# Altium footprint library STM32F4xx.PcbLib: 13 footprints
Each footprint in its own frame and in the unit in brackets; x right, y up, seen from the top. Pads: shape width x height; smd on the part's side, far side on the other; paste and mask are expansions set on the pad; w line width, h text height; cw(c..) or ccw(c..) is an arc to the next point about the centre after c.
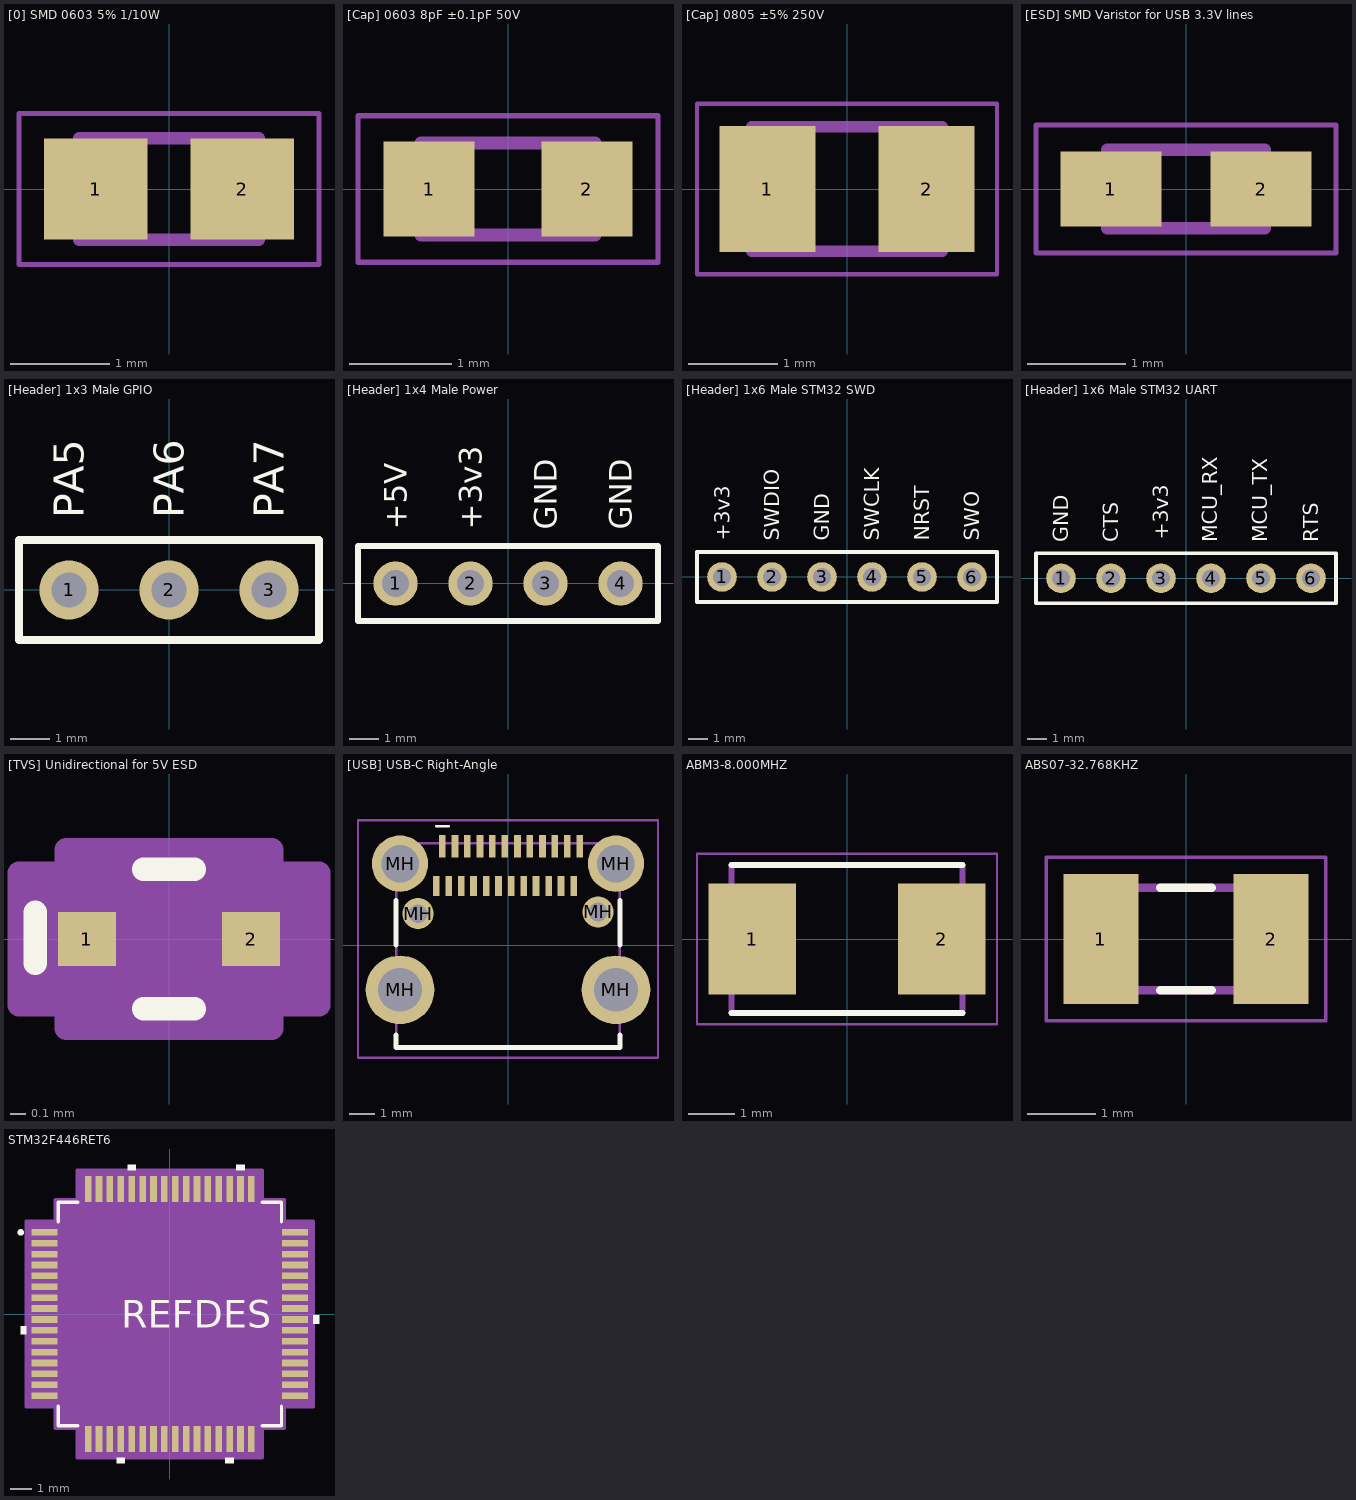
[diagram p0: the footprints below, top view; thin cyan lines are the x and y axes]

## [0] SMD 0603 5% 1/10W [mm]
pads (2):
  rect 1.04x1.02 smd: 1(-0.735,0) 2(0.735,0)
Mechanical 13:
  lines w0.127: -0.9,-0.51 0.9,-0.51 0.9,0.51 -0.9,0.51 -0.9,-0.51
Mechanical 15:
  lines w0.05: -1.508,-0.761 1.508,-0.761 1.508,0.761 -1.508,0.761 -1.508,-0.761
3D body "step_temp.STEP": height 0.55, standoff 0, extent -0.8,-0.4 0.8,0.4

## [Cap] 0603 8pF ±0.1pF 50V [mm]
pads (2):
  rect 0.89x0.93 smd paste+0 mask+0.102: 1(-0.77,0) 2(0.77,0)
Mechanical 13:
  lines w0.127: -0.85,-0.45 0.85,-0.45 0.85,0.45 -0.85,0.45 -0.85,-0.45
Mechanical 15:
  lines w0.05: -1.465,-0.715 1.465,-0.715 1.465,0.715 -1.465,0.715 -1.465,-0.715
3D body "step_temp.STEP": height 0.9, standoff 0, extent -0.8,-0.4 0.8,0.4

## [Cap] 0805 ±5% 250V [mm]
pads (2):
  rect 1.08x1.42 smd paste+0 mask+0.102: 1(-0.895,0) 2(0.895,0)
Mechanical 13:
  lines w0.127: -1.07,-0.7 -1.07,0.7 1.07,0.7 1.07,-0.7 -1.07,-0.7
Mechanical 15:
  lines w0.05: -1.685,-0.96 -1.685,0.96 1.685,0.96 1.685,-0.96 -1.685,-0.96
3D body "step_temp.STEP": height 1, standoff 0, extent -1,-0.625 1,0.625

## [ESD] SMD Varistor for USB 3.3V lines [mm]
height 0.55
pads (2):
  rect 1.02x0.76 smd: 1(-0.76,0) 2(0.76,0)
Mechanical 13:
  lines w0.127: -0.8,-0.4 0.8,-0.4 0.8,0.4 -0.8,0.4 -0.8,-0.4
Mechanical 15:
  lines w0.05: -1.52,-0.65 -1.52,0.65 1.52,0.65 1.52,-0.65 -1.52,-0.65
3D body "cg0603mlu.stp": height 0.45, standoff 0, extent -0.8,-0.4 0.8,0.4

## [Header] 1x3 Male GPIO [mm]
pads (3):
  round 1.5 hole 0.9: 1(-2.54,0) 2(0,0) 3(2.54,0)
Top Overlay:
  lines w0.2: -3.81,-1.27 -3.81,1.27 3.81,1.27 3.81,-1.27 -3.81,-1.27
  text "PA7" at 2.921,1.829 h0.76
  text "PA6" at 0.381,1.829 h0.76
  text "PA5" at -2.159,1.829 h0.76
Bottom Overlay:
  lines w0.2: -3.81,-1.27 3.81,-1.27 3.81,1.27 -3.81,1.27 -3.81,-1.27
Mechanical 15:
  lines w0.1: -3.81,-1.27 3.81,-1.27 3.81,1.27 -3.81,1.27 -3.81,-1.27
3D body "Pin Header 1x3 TH Pitch 2.54mm.stp": height 9.5, standoff -3.2, extent -3.81,-1.27 3.81,1.27

## [Header] 1x4 Male Power [mm] "2.54mm pitch"
pads (4):
  round 1.5 hole 0.9: 1(-3.81,0) 2(-1.27,0) 3(1.27,0) 4(3.81,0)
Top Overlay:
  lines w0.2: -5.08,-1.27 -5.08,1.27 5.08,1.27 5.08,-1.27 -5.08,-1.27
  text "+5V" at -3.429,1.829 h0.76
  text "+3v3" at -0.889,1.829 h0.76
  text "GND" at 1.651,1.829 h0.76
  text "GND" at 4.191,1.829 h0.76
Bottom Overlay:
  lines w0.2: -5.08,-1.27 5.08,-1.27 5.08,1.27 -5.08,1.27 -5.08,-1.27
Mechanical 15:
  lines w0.1: -5.08,-1.27 5.08,-1.27 5.08,1.27 -5.08,1.27 -5.08,-1.27
3D body "Pin Header 1x4 TH Pitch 2.54mm.stp": height 9.5, standoff -3.2, extent -5.08,-1.27 5.08,1.27

## [Header] 1x6 Male STM32 SWD [mm]
pads (6):
  round 1.5 hole 0.9: 1(-6.35,0) 2(-3.81,0) 3(-1.27,0) 4(1.27,0) 5(3.81,0) 6(6.35,0)
Top Overlay:
  lines w0.2: -7.62,-1.27 7.62,-1.27 7.62,1.27 -7.62,1.27 -7.62,-1.27
  text "SWO" at 6.731,1.829 h0.76
  text "NRST" at 4.191,1.829 h0.76
  text "SWCLK" at 1.651,1.829 h0.76
  text "GND" at -0.889,1.829 h0.76
  text "SWDIO" at -3.429,1.829 h0.76
  text "+3v3" at -5.969,1.829 h0.76
Bottom Overlay:
  lines w0.2: -7.62,-1.27 -7.62,1.27 7.62,1.27 7.62,-1.27 -7.62,-1.27
Mechanical 15:
  lines w0.1: -7.62,-1.27 -7.62,1.27 7.62,1.27 7.62,-1.27 -7.62,-1.27
3D body "Pin Header 1x6 TH Pitch 2.54mm.stp": height 9.5, standoff -3.2, extent -7.62,-1.27 7.62,1.27

## [Header] 1x6 Male STM32 UART [mm]
pads (6):
  round 1.5 hole 0.9: 1(-6.35,0) 2(-3.81,0) 3(-1.27,0) 4(1.27,0) 5(3.81,0) 6(6.35,0)
Top Overlay:
  lines w0.2: -7.62,-1.27 -7.62,1.27 7.62,1.27 7.62,-1.27 -7.62,-1.27
  text "+3v3" at -0.889,1.956 h0.76
  text "CTS" at -3.429,1.829 h0.76
  text "GND" at -5.969,1.829 h0.76
  text "MCU_RX" at 1.587,1.829 h0.76
  text "MCU_TX" at 4.127,1.829 h0.76
  text "RTS" at 6.731,1.829 h0.76
Bottom Overlay:
  lines w0.2: -7.62,-1.27 7.62,-1.27 7.62,1.27 -7.62,1.27 -7.62,-1.27
Mechanical 15:
  lines w0.1: -7.62,-1.27 7.62,-1.27 7.62,1.27 -7.62,1.27 -7.62,-1.27
3D body "Pin Header 1x6 TH Pitch 2.54mm.stp": height 9.5, standoff -3.2, extent -7.62,-1.27 7.62,1.27

## [TVS] Unidirectional for 5V ESD [mil]
pads (2):
  rect 15x14 smd paste+0 mask+0: 1(-21.17,0) 2(21.17,0)
Top Overlay:
  lines w6: -34.45,-6.22 -34.45,6.89 ; -6.56,-18 6.56,-18 ; -6.56,18 6.56,18
Mechanical 13:
  lines w1: -16.5,-6.5 -10,-13 ; -16.5,6.5 -10,13 ; -20.67,-7 -20.67,7 -16.5,7 -16.5,-7 -20.67,-7 ; -16.5,-13 16.5,-13 16.5,13 -16.5,13 -16.5,-13 ; 16.5,-7 16.5,7 20.67,7 20.67,-7 16.5,-7
  lines w6: -34.45,-6.22 -34.45,6.89
Mechanical 15:
  region: -26.5,-17 -38.67,-17 -38.67,17 -26.5,17 -26.5,23 26.5,23 26.5,17 38.67,17 38.67,-17 26.5,-17 26.5,-23 -26.5,-23
  lines w6: -38.67,-17 -38.67,17 -26.5,17 -26.5,23 26.5,23 26.5,17 38.67,17 38.67,-17 26.5,-17 26.5,-23 -26.5,-23 -26.5,-17 -38.67,-17
3D body "CR_0F1U2S9-7_DIO.step": height 16.26, standoff 0, extent -20.67,-12.99 20.67,12.99

## [USB] USB-C Right-Angle [mm]
pads (30):
  rect 0.27x0.9 smd: A1(-2.625,3.965) A2(-2.125,3.965) A3(-1.625,3.965) A4(-1.125,3.965) A5(-0.625,3.965) A6(-0.125,3.965) A7(0.375,3.965) A8(0.875,3.965) A9(1.375,3.965) A10(1.875,3.965) A11(2.375,3.965) A12(2.875,3.965)
  rect 0.27x0.8 smd: B1(2.625,2.365) B2(2.125,2.365) B3(1.625,2.365) B4(1.125,2.365) B5(0.625,2.365) B6(0.125,2.365) B7(-0.375,2.365) B8(-0.875,2.365) B9(-1.375,2.365) B10(-1.875,2.365) B11(-2.375,2.365) B12(-2.875,2.365)
  round 2.75 hole 1.75: MH(-4.32,-1.785) MH(4.32,-1.785)
  round 2.25 hole 1.5: MH(-4.32,3.265) MH(4.32,3.265)
  round 1.25 hole 0.75: MH(-3.6,1.265) MH(3.6,1.33)
Top Overlay:
  lines w0.1: -2.875,4.75 -2.375,4.75
  lines w0.2: -4.47,-3.6 -4.47,-4.085 4.47,-4.085 4.47,-3.6 ; -4.47,0 -4.47,1.8 ; 4.47,0 4.47,1.8
Mechanical 13:
  lines w0.1: -4.47,-4.085 4.47,-4.085 4.47,4.085 -4.47,4.085 -4.47,-4.085
Mechanical 15:
  lines w0.1: -6,-4.5 6,-4.5 6,5 -6,5 -6,-4.5
3D body "DX07S024JA1R1300.stp": height 2.92, standoff -0.82, extent -4.51,-4.16 4.43,4.01

## ABM3-8.000MHZ [mm]
height 1.3
pads (2):
  rect 1.9x2.4 smd: 1(-2.05,0) 2(2.05,0)
Top Overlay:
  lines w0.127: -2.5,-1.6 2.5,-1.6 ; -2.5,1.6 2.5,1.6
Mechanical 13:
  lines w0.127: -2.5,-1.6 2.5,-1.6 2.5,1.6 -2.5,1.6 -2.5,-1.6
Mechanical 15:
  lines w0.05: -3.25,-1.85 3.25,-1.85 3.25,1.85 -3.25,1.85 -3.25,-1.85
3D body "step_temp.STEP": height 1.3, standoff 0, extent -2.5,-1.6 2.5,1.6

## ABS07-32.768KHZ [mm]
height 0.9
pads (2):
  rect 1.1x1.9 smd: 1(-1.25,0) 2(1.25,0)
Top Overlay:
  lines w0.127: -0.38,-0.75 0.38,-0.75 ; -0.38,0.75 0.38,0.75
Mechanical 13:
  lines w0.127: -1.6,-0.75 1.6,-0.75 1.6,0.75 -1.6,0.75 -1.6,-0.75
Mechanical 15:
  lines w0.05: -2.05,-1.2 2.05,-1.2 2.05,1.2 -2.05,1.2 -2.05,-1.2
3D body "step_temp.STEP": height 0.9, standoff 0, extent -1.6,-0.75 1.6,0.75

## STM32F446RET6 [mm]
pads (64):
  rect 1.194x0.305 smd paste+0 mask+0: 1(-5.75,3.75) 2(-5.75,3.25) 3(-5.75,2.75) 4(-5.75,2.25) 5(-5.75,1.75) 6(-5.75,1.25) 7(-5.75,0.75) 8(-5.75,0.25) 9(-5.75,-0.25) 10(-5.75,-0.75) 11(-5.75,-1.25) 12(-5.75,-1.75) 13(-5.75,-2.25) 14(-5.75,-2.75) 15(-5.75,-3.25) 16(-5.75,-3.75) 33(5.75,-3.75) 34(5.75,-3.25) 35(5.75,-2.75) 36(5.75,-2.25) 37(5.75,-1.75) 38(5.75,-1.25) 39(5.75,-0.75) 40(5.75,-0.25) 41(5.75,0.25) 42(5.75,0.75) 43(5.75,1.25) 44(5.75,1.75) 45(5.75,2.25) 46(5.75,2.75) 47(5.75,3.25) 48(5.75,3.75)
  rect 0.305x1.194 smd paste+0 mask+0: 17(-3.75,-5.75) 18(-3.25,-5.75) 19(-2.75,-5.75) 20(-2.25,-5.75) 21(-1.75,-5.75) 22(-1.25,-5.75) 23(-0.75,-5.75) 24(-0.25,-5.75) 25(0.25,-5.75) 26(0.75,-5.75) 27(1.25,-5.75) 28(1.75,-5.75) 29(2.25,-5.75) 30(2.75,-5.75) 31(3.25,-5.75) 32(3.75,-5.75) 49(3.75,5.75) 50(3.25,5.75) 51(2.75,5.75) 52(2.25,5.75) 53(1.75,5.75) 54(1.25,5.75) 55(0.75,5.75) 56(0.25,5.75) 57(-0.25,5.75) 58(-0.75,5.75) 59(-1.25,5.75) 60(-1.75,5.75) 61(-2.25,5.75) 62(-2.75,5.75) 63(-3.25,5.75) 64(-3.75,5.75)
Top Overlay:
  circle w0.152: c-6.851,3.75 r0.076
  region: -1.559,6.601 -1.94,6.601 -1.94,6.855 -1.559,6.855
  region: 3.441,6.601 3.06,6.601 3.06,6.855 3.441,6.855
  region: 6.601,-0.059 6.855,-0.059 6.855,-0.44 6.601,-0.44
  region: 2.94,-6.601 2.559,-6.601 2.559,-6.855 2.94,-6.855
  region: -2.06,-6.601 -2.441,-6.601 -2.441,-6.855 -2.06,-6.855
  region: -6.601,-0.56 -6.855,-0.56 -6.855,-0.941 -6.601,-0.941
  lines w0.152: -5.131,-4.234 -5.131,-5.131 -4.234,-5.131 ; -5.131,4.234 -5.131,5.131 -4.234,5.131 ; 4.234,-5.131 5.131,-5.131 5.131,-4.234 ; 4.234,5.131 5.131,5.131 5.131,4.234
  text "REFDES" at -2.222,-0.635 h1.27
Mechanical 13:
  circle w0: c-4.518,3.75 r0.076
  lines w0.025: -5.004,3.734 -3.734,5.004 ; -5.004,-5.004 -5.004,5.004 5.004,5.004 5.004,-5.004 -5.004,-5.004
Mechanical 15:
  region: -4.258,-5.258 -5.258,-5.258 -5.258,-4.258 -6.601,-4.258 -6.601,4.258 -5.258,4.258 -5.258,5.258 -4.258,5.258 -4.258,6.601 4.258,6.601 4.258,5.258 5.258,5.258 5.258,4.258 6.601,4.258 6.601,-4.258 5.258,-4.258 5.258,-5.258 4.258,-5.258 4.258,-6.601 -4.258,-6.601
  lines w0.152: -6.601,-4.258 -6.601,4.258 -5.258,4.258 -5.258,5.258 -4.258,5.258 -4.258,6.601 4.258,6.601 4.258,5.258 5.258,5.258 5.258,4.258 6.601,4.258 6.601,-4.258 5.258,-4.258 5.258,-5.258 4.258,-5.258 4.258,-6.601 -4.258,-6.601 -4.258,-5.258 -5.258,-5.258 -5.258,-4.258 -6.601,-4.258
3D body "LQFP64-10x10mm.step": height 1.6, standoff 0, extent -5.997,-5.997 5.997,5.997